# EAGLE library part 750314352 (library WE-OLSTM)
WE-OLSTM Offline Flyback Transformers Characteristics Nominal input voltage: 85–265 VAC (120–375 VDC) Operating temperature: –40 °C to +125 °C Isolation voltage: 2 kVAC up to 5 kVAC Multiple output options Options for fixed frequency or quasi-resonant mode operation Most products meet reinforced insulation Applications Offline-switch mode power supplies Especially designed for several ICs from STMicroelectronics Auxiliary power supply Home appliances Consumer electronics <https://www.we-online.com/components/media/o781306v209%20FAMILY-MID-OLSTM.jpg> Details see: www.we-online.com/en/components/products/WE-OLSTM <www.we-online.com/en/components/products/WE-OLSTM/?utm_source=eagle_model&utm_medium=description_link&utm_campaign=eisos_eagle> Created by Leviosa 2024-04-15 2024(C) Wurth Elektronik
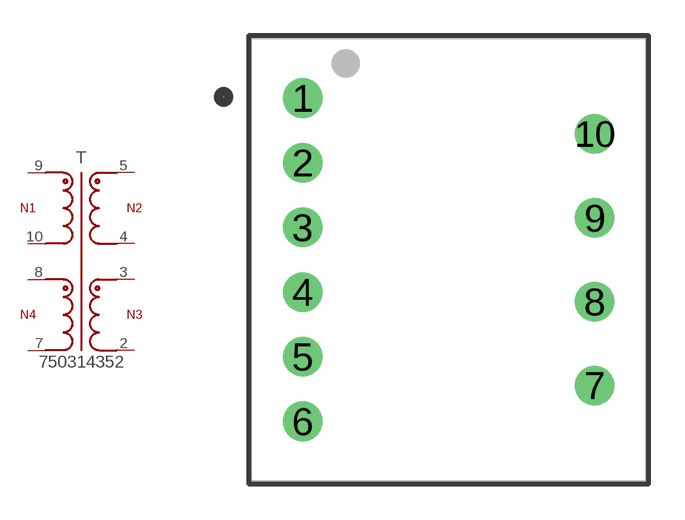
[diagram p15: symbol with the pads of WE-OLSTM_EE16_L18.5W16.5H18.8; footprint WE-OLSTM_EE16_L18.5W16.5H18.8]

Designator prefix T

## 750314352 (DATASHEET-URL: https://www.we-online.com/redexpert/spec/750314352?ae; FSWITCH: 115kHz; IOUT1: 100mA; IOUT2: 700mA; ISAT: 820mA; L: 0.9mH; MOUNT: THT; N: 11.9:1.33:1:2.11; PART-NUMBER: 750314352; SIZE: EE16/7/5; VALUE: 750314352; VAUX: 12V; VIN: 85 - 265 V (AC); VOUT1: 6V; VOUT2: 15V; VT: 1500V(AC))  [WE-OLSTM_EE16_L18.5W16.5H18.8]
2  2  pas
3  3  pas
4  4  pas
5  5  pas
7  7  pas
8  8  pas
9  9  pas
10  10  pas

## Footprint WE-OLSTM_EE16_L18.5W16.5H18.8 (pad centres in mm)
WE-OLSTM Offline Flyback Transformers for STMicroelectronics Size: EE16, THT, 10Pins LXWXH=18.5X16.5X18.8mm
drill 1.1: 1 -6.1,6.75; 2 -6.1,4.05; 3 -6.1,1.35; 4 -6.1,-1.35; 5 -6.1,-4.05; 6 -6.1,-6.75; 7 6.1,-5.25; 8 6.1,-1.75; 9 6.1,1.75; 10 6.1,5.25